# Altium schematic symbol library BMS-lib.SchLib: 40 symbols (part 2 of 2)
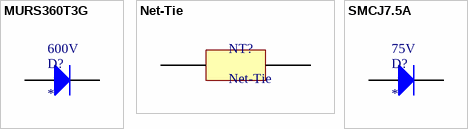
[diagram p2: symbols MURS360T3G to SMCJ7.5A]

## SMCJ7.5A
designator D?  Rep Pk Reverse Voltage-Max: 75V
Trans Voltage Suppressor Diode, 1500W, 75V V(RWM), Unidirectional, 1 Element, Silicon, DO-214AB; Manufacturer: Littelfuse; Manufacturer Part Number: SMCJ7.5A; Package Body Material: Plastic; Max Breakdown Voltage: 92.1V; Min Breakdown Voltage: 83.3V; Breakdown Voltage-Nom: 87.7V; Non-rep Peak Rev Power Dis-Max: 1.5kW; Number of Elements: 1; Clamping Voltage-Max: 121V; Time @ Peak Reflow Temperature-Max (s): 40s; Qualification Status: Not Qualified; Supplier: Arrow Electronics; Supplier Part Number: SMCJ7.5A; RoHS: Yes; Category: TVS Diodes; Stock: 1; Pricing: 1=0.1926 (USD); Pins: 2; Diode Element Material: SILICON; Package Shape: Rectangular; Terminal Finish: Tin; Min Operating Temperature: -65°C; Max Operating Temperature: 150°C; Polarity: Unidirectional; Diode Type: TRANS VOLTAGE SUPPRESSOR; JESD-30 Code: R-PDSO-C2; Moisture Sensitivity Level: 1; Package Style: SMALL OUTLINEMeter; Surface Mount: Yes; Technology: AVALANCHE; Terminal Form: C BEND; Terminal Position: DUAL; JESD-609 Code: e3; Peak Reflow Temperature (Cel): 260°C; RoHS Compliant: Yes; Reach SVHC Compliant: No; JEDEC-95 Code: DO-214AB; ComponentLink1URL: https://datasheet.ciiva.com:443/pdfs/VipMasterIC/IC/LFSI/LFSI-S-A0001360024/LFSI-S-A0001360024-1.pdf?src-supplier=IHS+Markit; ComponentLink1Description: https://datasheet.ciiva.com:443/pdfs/VipMasterIC/IC/LFSI/LFSI-S-A0001360024/LFSI-S-A0001360024-1.pdf?src-supplier=IHS+Markit; ComponentLink2URL: https://datasheet.ciiva.com/332/littelfuse-tvs-diode-smcj-datasheet-pdf-332078.pdf?src-supplier=Digikey; ComponentLink2Description: https://datasheet.ciiva.com/332/littelfuse-tvs-diode-smcj-datasheet-pdf-332078.pdf?src-supplier=Digikey; ComponentLink3URL: https://datasheet.ciiva.com/332/littelfuse-tvs-diode-smcj-datasheet-pdf-332079.pdf?src-supplier=Digikey; ComponentLink3Description: https://datasheet.ciiva.com/332/littelfuse-tvs-diode-smcj-datasheet-pdf-332079.pdf?src-supplier=Digikey; ComponentLink4URL: https://datasheet.ciiva.com/332/littelfuse-tvs-diode-smcj-datasheet-pdf-332132.pdf?src-supplier=Digikey; ComponentLink4Description: https://datasheet.ciiva.com/332/littelfuse-tvs-diode-smcj-datasheet-pdf-332132.pdf?src-supplier=Digikey; ComponentLink5URL: https://datasheet.ciiva.com/332/littelfuse-tvs-diode-smcj-datasheet-pdf-332133.pdf?src-supplier=Digikey; ComponentLink5Description: https://datasheet.ciiva.com/332/littelfuse-tvs-diode-smcj-datasheet-pdf-332133.pdf?src-supplier=Digikey; ComponentLink6URL: https://datasheet.ciiva.com/332/littelfuse-tvs-diode-smcj-datasheet-pdf-332134.pdf?src-supplier=Digikey; ComponentLink6Description: https://datasheet.ciiva.com/332/littelfuse-tvs-diode-smcj-datasheet-pdf-332134.pdf?src-supplier=Digikey; ComponentLink7URL: https://datasheet.ciiva.com/16487/littelfuse-tvs-diode-smcj-16487821.pdf?src-supplier=Future+Electronics; ComponentLink7Description: https://datasheet.ciiva.com/16487/littelfuse-tvs-diode-smcj-16487821.pdf?src-supplier=Future+Electronics; Supplier 1: Mouser; Supplier Part Number 1: 576-SMCJ7.5A
footprint DIOM7959X262N
pins: 1 A, 2 K